# EAGLE library part WF121 (library work)
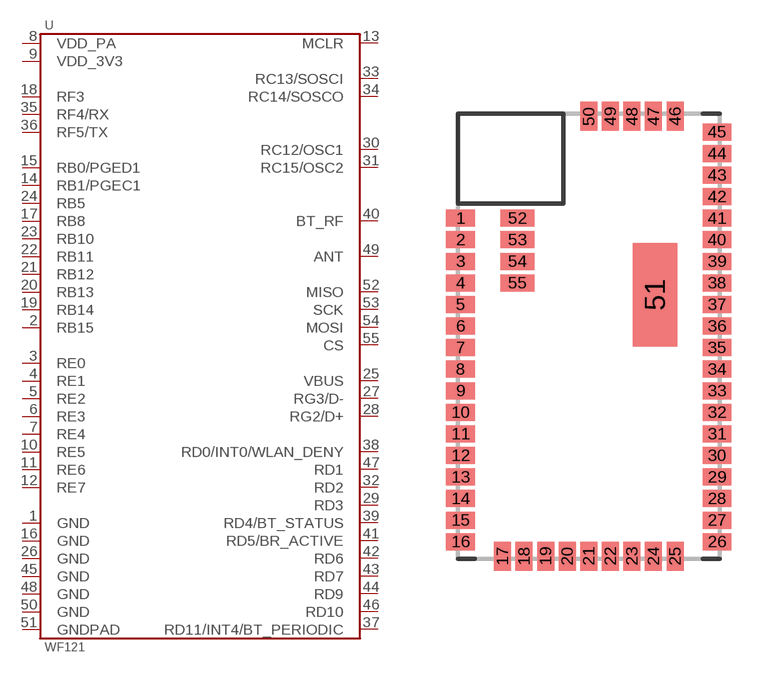
[diagram p89: symbol with the pads of WF121; footprint WF121]

Designator prefix U

## WF121  [WF121]
1  GND
2  RB15
3  RE0
4  RE1
5  RE2
6  RE3
7  RE4
8  VDD_PA
9  VDD_3V3
10  RE5
11  RE6
12  RE7
13  MCLR
14  RB1/PGEC1
15  RB0/PGED1
16  GND
17  RB8
18  RF3
19  RB14
20  RB13
21  RB12
22  RB11
23  RB10
24  RB5
25  VBUS
26  GND
27  RG3/D-
28  RG2/D+
29  RD3
30  RC12/OSC1
31  RC15/OSC2
32  RD2
33  RC13/SOSCI
34  RC14/SOSCO
35  RF4/RX
36  RF5/TX
37  RD11/INT4/BT_PERIODIC
38  RD0/INT0/WLAN_DENY
39  RD4/BT_STATUS
40  BT_RF
41  RD5/BR_ACTIVE
42  RD6
43  RD7
44  RD9
45  GND
46  RD10
47  RD1
48  GND
49  ANT
50  GND
51  GNDPAD
52  MISO
53  SCK
54  MOSI
55  CS

## Footprint WF121 (pad centres in mm)
smd 1.7 x 1: 1 -7.55,20.05; 2 -7.55,18.78; 3 -7.55,17.51; 4 -7.55,16.24; 5 -7.55,14.97; 6 -7.55,13.7; 7 -7.55,12.43; 8 -7.55,11.16; 9 -7.55,9.89; 10 -7.55,8.62; 11 -7.55,7.35; 12 -7.55,6.08; 13 -7.55,4.81; 14 -7.55,3.54; 15 -7.55,2.27; 16 -7.55,1; 26 7.55,1; 27 7.55,2.27; 28 7.55,3.54; 29 7.55,4.81; 30 7.55,6.08; 31 7.55,7.35; 32 7.55,8.62; 33 7.55,9.89; 34 7.55,11.16; 35 7.55,12.43; 36 7.55,13.7; 37 7.55,14.97; 38 7.55,16.24; 39 7.55,17.51; 40 7.55,18.78; 41 7.55,20.05; 42 7.55,21.32; 43 7.55,22.59; 44 7.55,23.86; 45 7.55,25.13
smd 1 x 1.7: 17 -5.08,0.15; 18 -3.81,0.15; 19 -2.54,0.15; 20 -1.27,0.15; 21 0,0.15; 22 1.27,0.15; 23 2.54,0.15; 24 3.81,0.15; 25 5.08,0.15; 46 5.08,26.05; 47 3.81,26.05; 48 2.54,26.05; 49 1.27,26.05; 50 0,26.05
smd 2.6 x 6.1: 51 3.9,15.55
smd 2 x 1: 52 -4.2,20.05; 53 -4.2,18.78; 54 -4.2,17.51; 55 -4.2,16.24